# Altium footprint library LED-0805.PcbLib: 1 footprints
Each footprint in its own frame and in the unit in brackets; x right, y up, seen from the top. Pads: shape width x height; smd on the part's side, far side on the other; paste and mask are expansions set on the pad; w line width, h text height; cw(c..) or ccw(c..) is an arc to the next point about the centre after c.
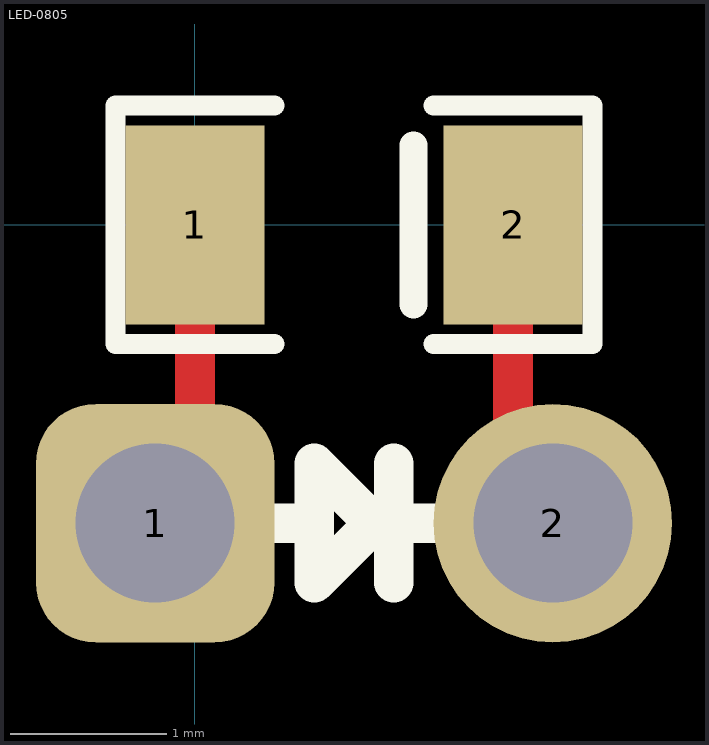
[diagram p0: the footprint, top view; thin cyan lines are the x and y axes]

## LED-0805 [mil]
height 50
pads (4):
  rrect50% 60x60 hole 40: 1(-10,-75)
  rect 35x50 smd: 1(0,0) 2(80,0)
  round 60 hole 40: 2(90,-75)
Top Layer:
  lines w10: 0,-65 0,0 ; 80,-65 80,0
Top Overlay:
  lines w5: 20,-30 -20,-30 -20,30 20,30 ; 60,-30 100,-30 100,30 60,30
  lines w7: 55,-20 55,20
  lines w10: 20,-75 30,-75 ; 50,-90 50,-60 ; 50,-75 60,-75 ; 30,-90 45,-75 30,-60 30,-90
3D body: height 50, standoff 0, extent -5,-25 75,25